# Altium schematic symbol library 610 3xx 243 021.SchLib: 8 symbols
Pins are listed as number, name and electrical type; pins without a type are passive.

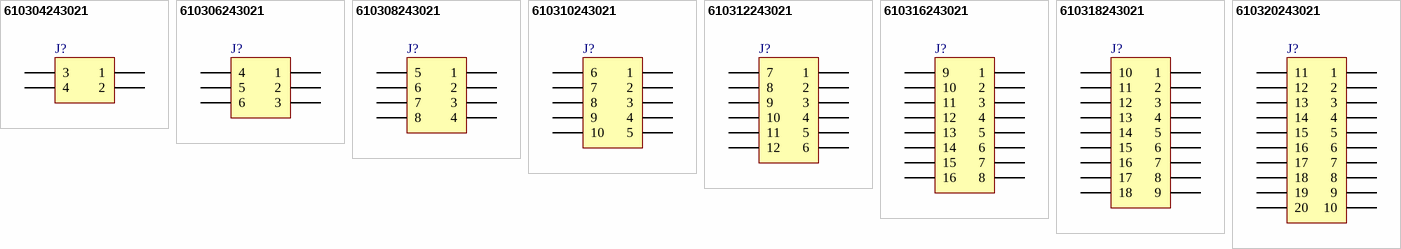
[diagram p0: symbols 610304243021 to 610320243021]

## 610304243021
designator J?, comment 04p  (value not drawn)
WR-PHD 2.54 mm SMT Dual Socket Header Bottom Entry, 04p; PartNumber: 610304243021; PublishedDate: July 2016; Publisher: Wurth Elektronik; ComponentLink1Description: Manufacturer; ComponentLink1URL: http://www.we-online.de; ComponentLink2Description: Datasheet; ComponentLink2URL: http://katalog.we-online.de/em/datasheet/6103xx243021.pdf; PinNumber: 04p
footprint 610304243021
pins: 1, 2, 3, 4

## 610306243021
designator J?, comment 06p  (value not drawn)
WR-PHD 2.54 mm SMT Dual Socket Header Bottom Entry, 06p; PartNumber: 610306243021; PublishedDate: July 2016; Publisher: Wurth Elektronik; ComponentLink1Description: Manufacturer; ComponentLink1URL: http://www.we-online.de; ComponentLink2Description: Datasheet; ComponentLink2URL: http://katalog.we-online.de/em/datasheet/6103xx243021.pdf; PinNumber: 06p
footprint 610306243021
pins: 1, 2, 3, 4, 5, 6

## 610308243021
designator J?, comment 08p  (value not drawn)
WR-PHD 2.54 mm SMT Dual Socket Header Bottom Entry, 08p; PartNumber: 610308243021; PublishedDate: July 2016; Publisher: Wurth Elektronik; ComponentLink1Description: Manufacturer; ComponentLink1URL: http://www.we-online.de; ComponentLink2Description: Datasheet; ComponentLink2URL: http://katalog.we-online.de/em/datasheet/6103xx243021.pdf; PinNumber: 08p
footprint 610308243021
pins: 1, 2, 3, 4, 5, 6, 7, 8

## 610310243021
designator J?, comment 10p  (value not drawn)
WR-PHD 2.54 mm SMT Dual Socket Header Bottom Entry, 10p; PartNumber: 610310243021; PublishedDate: July 2016; Publisher: Wurth Elektronik; ComponentLink1Description: Manufacturer; ComponentLink1URL: http://www.we-online.de; ComponentLink2Description: Datasheet; ComponentLink2URL: http://katalog.we-online.de/em/datasheet/6103xx243021.pdf; PinNumber: 10p
footprint 610310243021
pins: 1, 2, 3, 4, 5, 6, 7, 8, 9, 10

## 610312243021
designator J?, comment 12p  (value not drawn)
WR-PHD 2.54 mm SMT Dual Socket Header Bottom Entry, 12p; PartNumber: 610312243021; PublishedDate: July 2016; Publisher: Wurth Elektronik; ComponentLink1Description: Manufacturer; ComponentLink1URL: http://www.we-online.de; ComponentLink2Description: Datasheet; ComponentLink2URL: http://katalog.we-online.de/em/datasheet/6103xx243021.pdf; PinNumber: 12p
footprint 610312243021
pins: 1, 2, 3, 4, 5, 6, 7, 8, 9, 10, 11, 12

## 610316243021
designator J?, comment 16p  (value not drawn)
WR-PHD 2.54 mm SMT Dual Socket Header Bottom Entry, 16p; PartNumber: 610316243021; PublishedDate: July 2016; Publisher: Wurth Elektronik; ComponentLink1Description: Manufacturer; ComponentLink1URL: http://www.we-online.de; ComponentLink2Description: Datasheet; ComponentLink2URL: http://katalog.we-online.de/em/datasheet/6103xx243021.pdf; PinNumber: 16p
footprint 610316243021
pins: 1, 2, 3, 4, 5, 6, 7, 8, 9, 10, 11, 12, 13, 14, 15, 16

## 610318243021
designator J?, comment 18p  (value not drawn)
WR-PHD 2.54 mm SMT Dual Socket Header Bottom Entry, 18p; PartNumber: 610318243021; PublishedDate: July 2016; Publisher: Wurth Elektronik; ComponentLink1Description: Manufacturer; ComponentLink1URL: http://www.we-online.de; ComponentLink2Description: Datasheet; ComponentLink2URL: http://katalog.we-online.de/em/datasheet/6103xx243021.pdf; PinNumber: 18p
footprint 610318243021
pins: 1, 2, 3, 4, 5, 6, 7, 8, 9, 10, 11, 12, 13, 14, 15, 16, 17, 18

## 610320243021
designator J?, comment 20p  (value not drawn)
WR-PHD 2.54 mm SMT Dual Socket Header Bottom Entry, 20p; PartNumber: 610320243021; PublishedDate: July 2016; Publisher: Wurth Elektronik; ComponentLink1Description: Manufacturer; ComponentLink1URL: http://www.we-online.de; ComponentLink2Description: Datasheet; ComponentLink2URL: http://katalog.we-online.de/em/datasheet/6103xx243021.pdf; PinNumber: 20p
footprint 610320243021
pins: 1, 2, 3, 4, 5, 6, 7, 8, 9, 10, 11, 12, 13, 14, 15, 16, 17, 18, 19, 20